# Altium schematic symbol library Diode.SchLib: 27 symbols
Pins are listed as number, name and electrical type; pins without a type are passive.

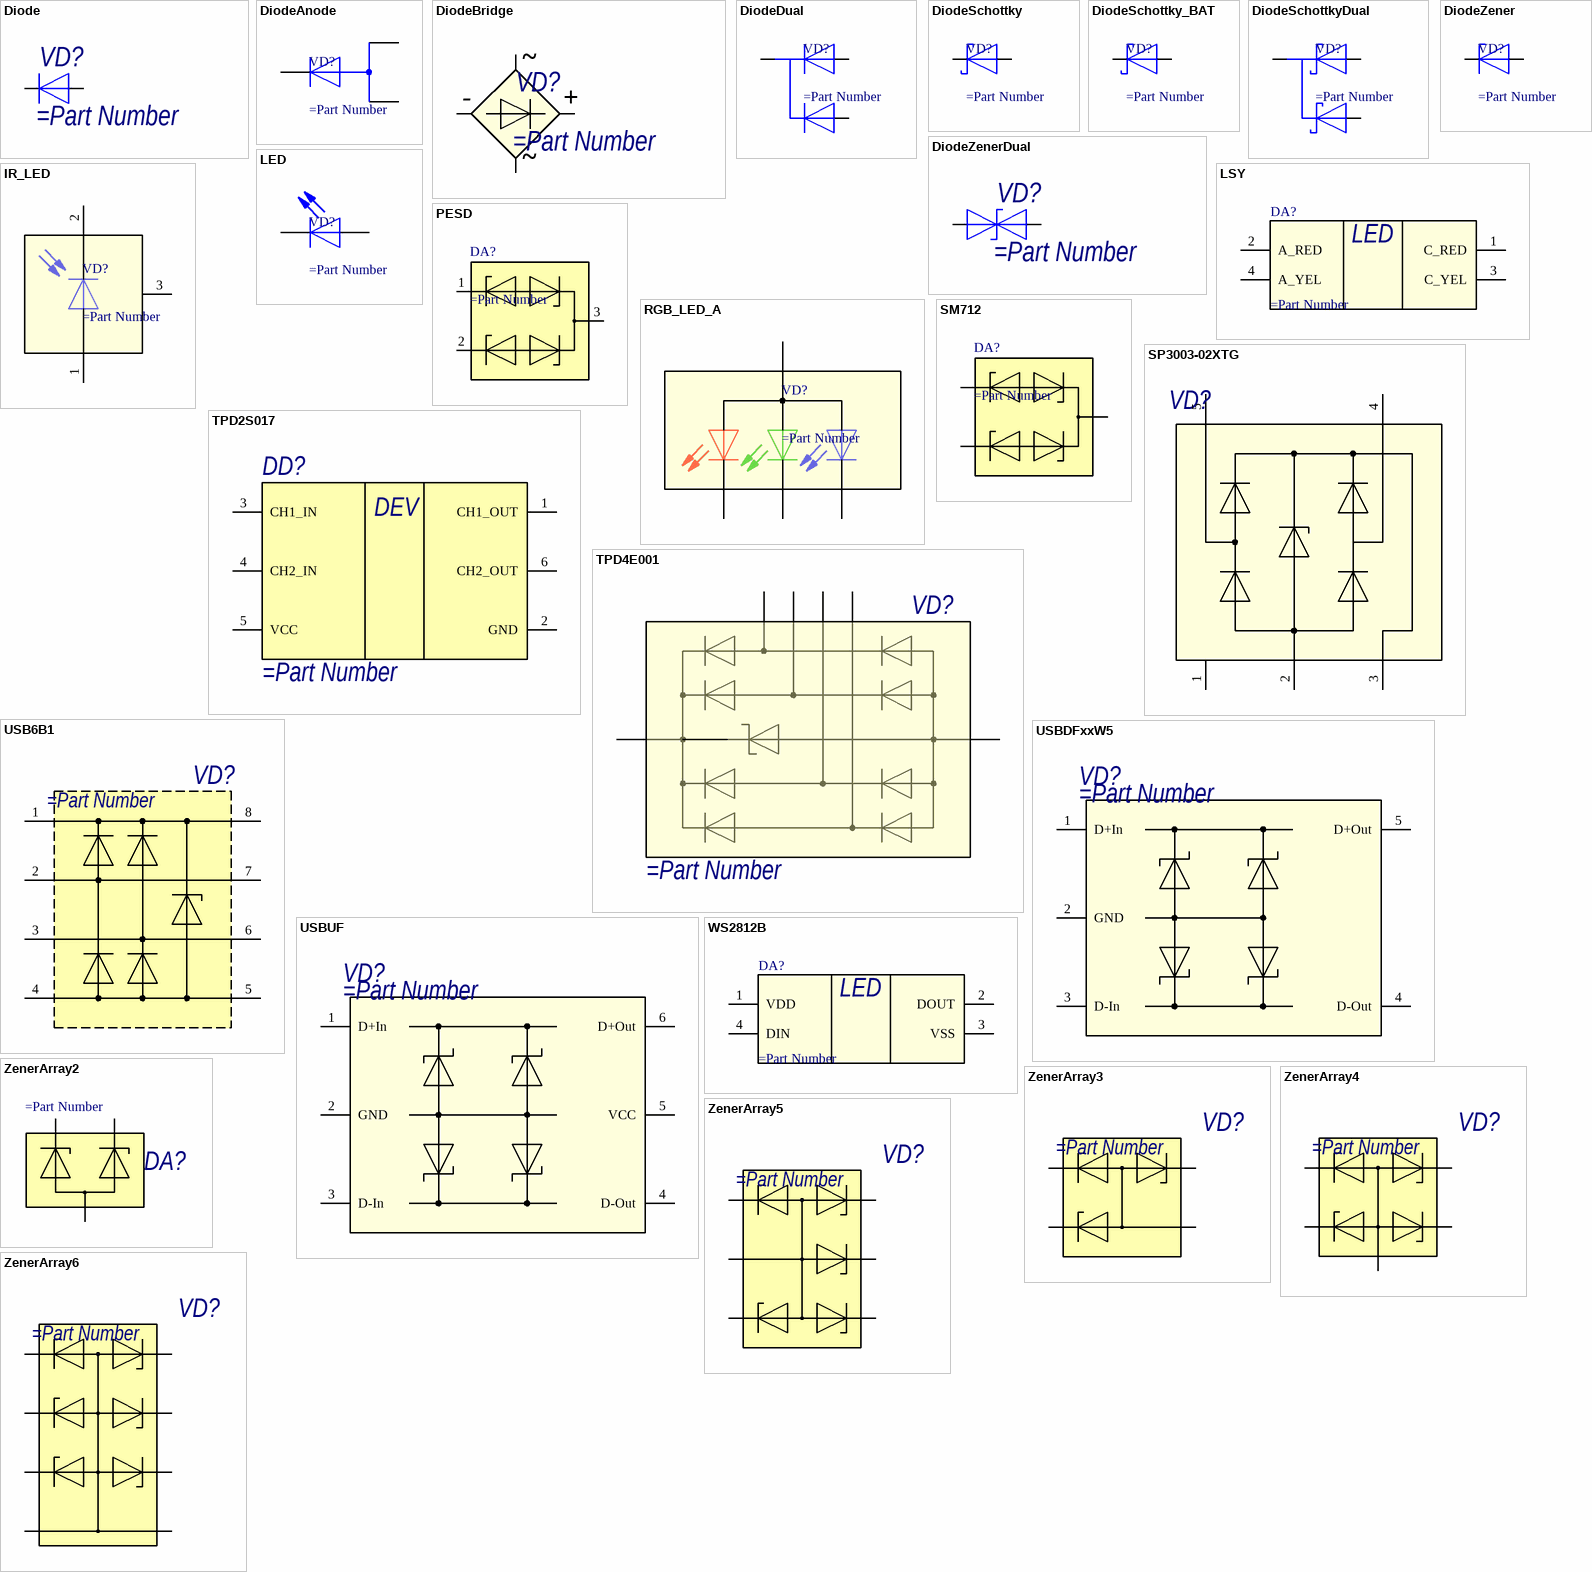
[diagram p0: symbols Diode to ZenerArray6]

## Diode
designator VD?
Диод
pins: 1 K, 2 A

## DiodeAnode
designator VD?
Диод Шоттки
pins: 1 A, 2 K, 3 A

## DiodeBridge
designator VD?
Диод
pins: AC1, AC2, NEG, POS
text: ~; -; +

## DiodeDual
designator VD?
Диод Шоттки
pins: 1 A, 2 K, 3 A

## DiodeSchottky
designator VD?
Диод Шоттки
pins: 1 K, 2 A

## DiodeSchottky_BAT
designator VD?
Диод Шоттки
pins: 1 A, 3 K

## DiodeSchottkyDual
designator VD?
Диод Шоттки
pins: 1 A, 2 K, 3 A

## DiodeZener
designator VD?
Cтабилитрон (лавинный выпрямительный диод) односторонний
pins: 1 K, 2 A

## DiodeZenerDual
designator VD?
Cтабилитрон (диод выпрямительный лавинный) двусторонний
pins: 1 K, 2 A

## IR_LED
designator VD?
Светодиод
pins: 1 GND, 2 VCC, 3 OUT

## LED
designator VD?
Светодиод
pins: 1 K, 2 A

## LSY
designator DA?
Multi TOPLED, super red (633 nm), yellow (587 nm)
pins: 1 C_RED (power), 2 A_RED (power), 3 C_YEL (power), 4 A_YEL (power)
text: LED

## PESD
designator DA?
TVS
pins: 1, 2 1, 3

## RGB_LED_A
designator VD?
RGB Светодиод с общим анодом
pins: 1 K, 2 K, 3 A, 4 K

## SM712
designator DA?
TVS
pins: 1, 2 1, 3

## SP3003-02XTG
designator VD?
Двухканальная ESD защита USB
pins: 1 NC, 2 GND, 3 VCC, 4 I/O_2, 5 I/O_1

## TPD2S017
designator DD?
EMI Filter
pins: 1 CH1_OUT, 2 GND (power), 3 CH1_IN, 4 CH2_IN, 5 VCC (power), 6 CH2_OUT
text: DEV

## TPD4E001
designator VD?
Диодная сборка
pins: 1 IO1, 2 GND, 3 IO2, 4 IO3, 5 VCC, 6 IO4

## USB6B1
designator VD?
Защита линии данных RS-485/RS-423 с защитой
pins: 1, 2, 3, 4, 5, 6, 7, 8

## USBDFxxW5
designator VD?
EMI filter and line termination for USB downstream ports
pins: 1 D+In, 2 GND, 3 D-In, 4 D-Out, 5 D+Out

## USBUF
designator VD?
EMEMI filter and line termination for USB upstream ports
pins: 1 D+In, 2 GND, 3 D-In, 4 D-Out, 5 VCC, 6 D+Out

## WS2812B
designator DA?
Светодиод SMD RGB с пиксельной адресацией
pins: 1 VDD (power), 2 DOUT (power), 3 VSS (power), 4 DIN (power)
text: LED

## ZenerArray2
designator DA?
Сборка TVS-диодов
pins: 1, 2, 3

## ZenerArray3
designator VD?
Защитный диод 5В
pins: 1, 2, 3, 4

## ZenerArray4
designator VD?
Защитный диод 5В
pins: 1, 2, 3, 4, 5

## ZenerArray5
designator VD?
Защитный диод 5В
pins: 1, 2, 3, 4, 5, 6

## ZenerArray6
designator VD?
Защитный диод 5В
pins: 1, 2, 3, 4, 5, 6, 7, 8